# Altium schematic symbol library Others.SchLib: 10 symbols
Pins are listed as number, name and electrical type; pins without a type are passive.

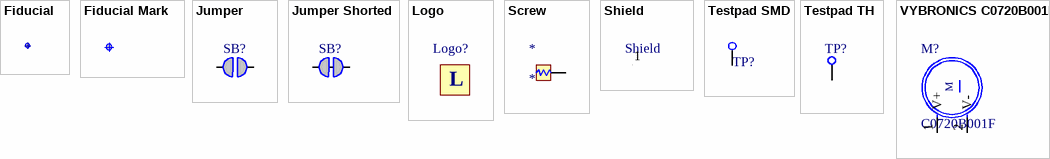
[diagram p0: symbols Fiducial to VYBRONICS C0720B001F]

## Fiducial
designator Fid?, comment Fiducial mark  (value not drawn)  (no BOM)
footprint Fiducial

## Fiducial Mark
designator FM?, comment Fiducial mark  (value not drawn)  (no BOM)
footprint Fiducial

## Jumper
designator SB?  (no BOM)
Solderbridge
footprint Solderbridge-Circular
footprint Solderbridge-Triangle
pins: 1, 2

## Jumper Shorted
designator SB?  (net tie, no BOM)
Shorted Solderbridge
footprint Solderbridge_Shorted
pins: 1, 2

## Logo
designator Logo?, comment Logo symbol  (value not drawn)  (no BOM)
Schematic symbol for Logo
footprint logo_semtech_horiz_size1 (Logo semtech horizontal - size1 - S)
footprint logo_semtech_horiz_size2 (Logo semtech horizontal - size2 - M)
footprint logo_semtech_horiz_size3 (Logo semtech horizontal - size3 - L)
footprint logo_semtech_horiz_size4 (Logo semtech horizontal - size4 - XL)
footprint Logo LoRa Size1
footprint Logo LoRa Size2
footprint Logo LoRa Size3
footprint Logo LoRa Size4 (Logo LoRa Size4 - Top Overlay)
footprint LOGO_YILDIZIOT (YıLDıZ IoT Logo)
text: L

## Screw
designator *  (no BOM)
footprint JAE SM3ZS067
pins: 1

## Shield
designator Shield, comment Logo symbol  (value not drawn)  (no BOM)
Shield - EMI Gasket - Standard Surface Mount Shields
footprint BMIS-205-F - Shield (BMIS-205-F EMI Gasket - Standard Surface Mount Shields -  Laird Technologies)
pins: 1 "Shield"

## Testpad SMD
designator TP?  (no BOM)
Testpoint, SMD
footprint Testpad SMD
pins: 1

## Testpad TH
designator TP?
Testpoint, through hole
footprint Testpad TH
pins: 1

## VYBRONICS C0720B001F
designator M?, comment C0720B001F
DC Motor Vibration, ERM 10000 RPM 3VDC; Supplier Part Number 1: 1670-VC0720B001F-ND; Manufacturer Part Number: C0720B001F
footprint VYBRONICS C0720B001F (Vibration Motor)
pins: 1 V+ (power), 2 V- (power)
text: M